# EAGLE library part GPS-15136 (library cots_dev)
ZED-F9P GPS RF Qwiic Platform Evaluation Expansion Board Check availability <https://pricing.snapeda.com/parts/GPS-15136/SparkFun%20Electronics/view-part?ref=eda>
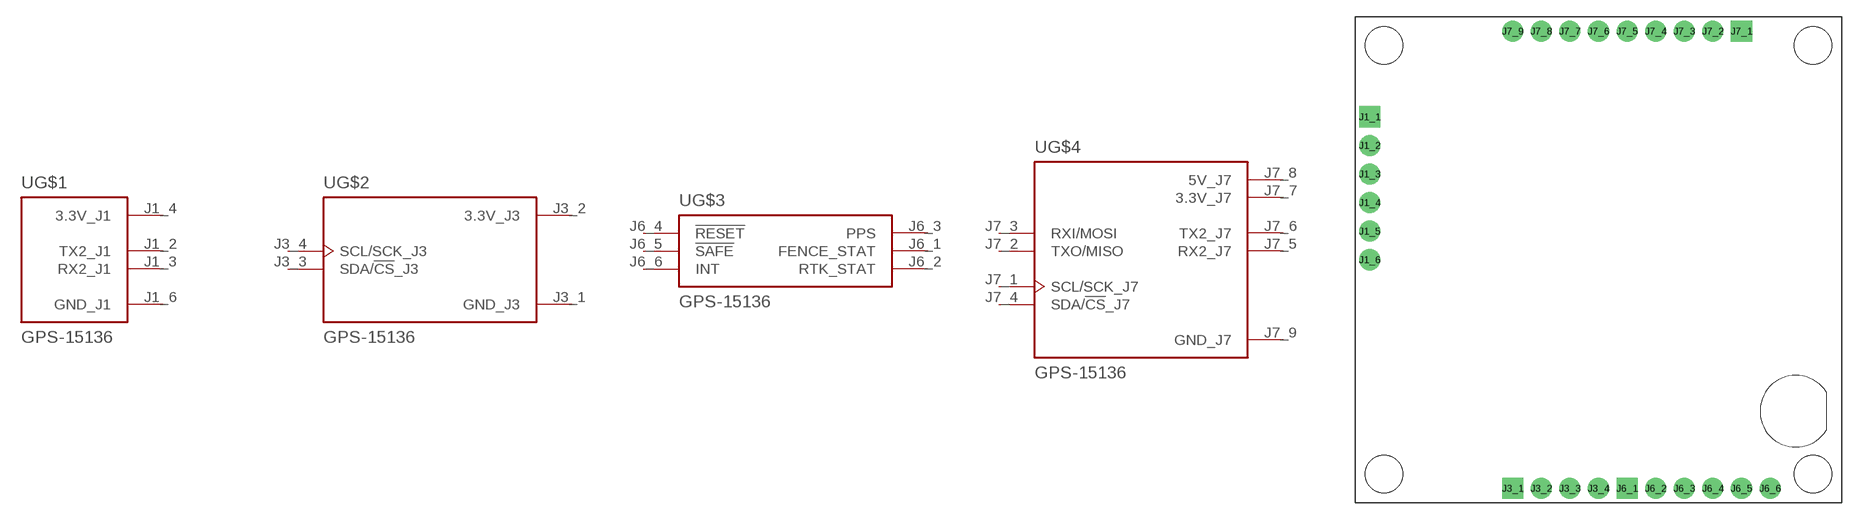
[diagram p0: symbol with the pads of MODULE_GPS-15136; footprint MODULE_GPS-15136]

Designator prefix U; gates G$1=GPS-15136_J1 G$2=GPS-15136_J3 G$3=GPS-15136_J6 G$4=GPS-15136_J7

## GPS-15136 (AVAILABILITY: In Stock; DESCRIPTION: ZED-F9P GPS RF Qwiic Platform Evaluation Expansion Board; MF: SparkFun Electronics; MP: GPS-15136; PACKAGE: None; PRICE: None; PURCHASE-URL: https://pricing.snapeda.com/search/part/GPS-15136/?ref=eda)  [MODULE_GPS-15136]
J1_2  G$1:TX2_J1  out
J1_3  G$1:RX2_J1  in
J1_4  G$1:3.3V_J1  pwr
J1_6  G$1:GND_J1  pwr
J3_1  G$2:GND_J3  pwr
J3_2  G$2:3.3V_J3  pwr
J3_3  G$2:SDA/!CS!_J3
J3_4  G$2:SCL/SCK_J3
J6_1  G$3:FENCE_STAT  out
J6_2  G$3:RTK_STAT  out
J6_3  G$3:PPS  out
J6_4  G$3:!RESET  in
J6_5  G$3:!SAFE  in
J6_6  G$3:INT  in
J7_1  G$4:SCL/SCK_J7
J7_2  G$4:TXO/MISO  out
J7_3  G$4:RXI/MOSI  in
J7_4  G$4:SDA/!CS!_J7
J7_5  G$4:RX2_J7  in
J7_6  G$4:TX2_J7  out
J7_7  G$4:3.3V_J7  pwr
J7_8  G$4:5V_J7  pwr
J7_9  G$4:GND_J7  pwr

## Footprint MODULE_GPS-15136 (pad centres in mm)
drill 1.016 pad 1.88 square: J1_1 1.27,34.29; J3_1 13.97,1.27; J6_1 24.13,1.27; J7_1 34.29,41.91
drill 1.016 pad 1.88: J1_2 1.27,31.75; J1_3 1.27,29.21; J1_4 1.27,26.67; J1_5 1.27,24.13; J1_6 1.27,21.59; J3_2 16.51,1.27; J3_3 19.05,1.27; J3_4 21.59,1.27; J6_2 26.67,1.27; J6_3 29.21,1.27; J6_4 31.75,1.27; J6_5 34.29,1.27; J6_6 36.83,1.27; J7_2 31.75,41.91; J7_3 29.21,41.91; J7_4 26.67,41.91; J7_5 24.13,41.91; J7_6 21.59,41.91; J7_7 19.05,41.91; J7_8 16.51,41.91; J7_9 13.97,41.91
hole 3.302 at 2.54,40.64
hole 3.302 at 2.54,2.54
hole 3.302 at 40.64,2.54
hole 3.302 at 40.64,40.64